# Altium integrated library K210.IntLib: 41 symbols
Pins are listed as number, name and electrical type; pins without a type are passive.

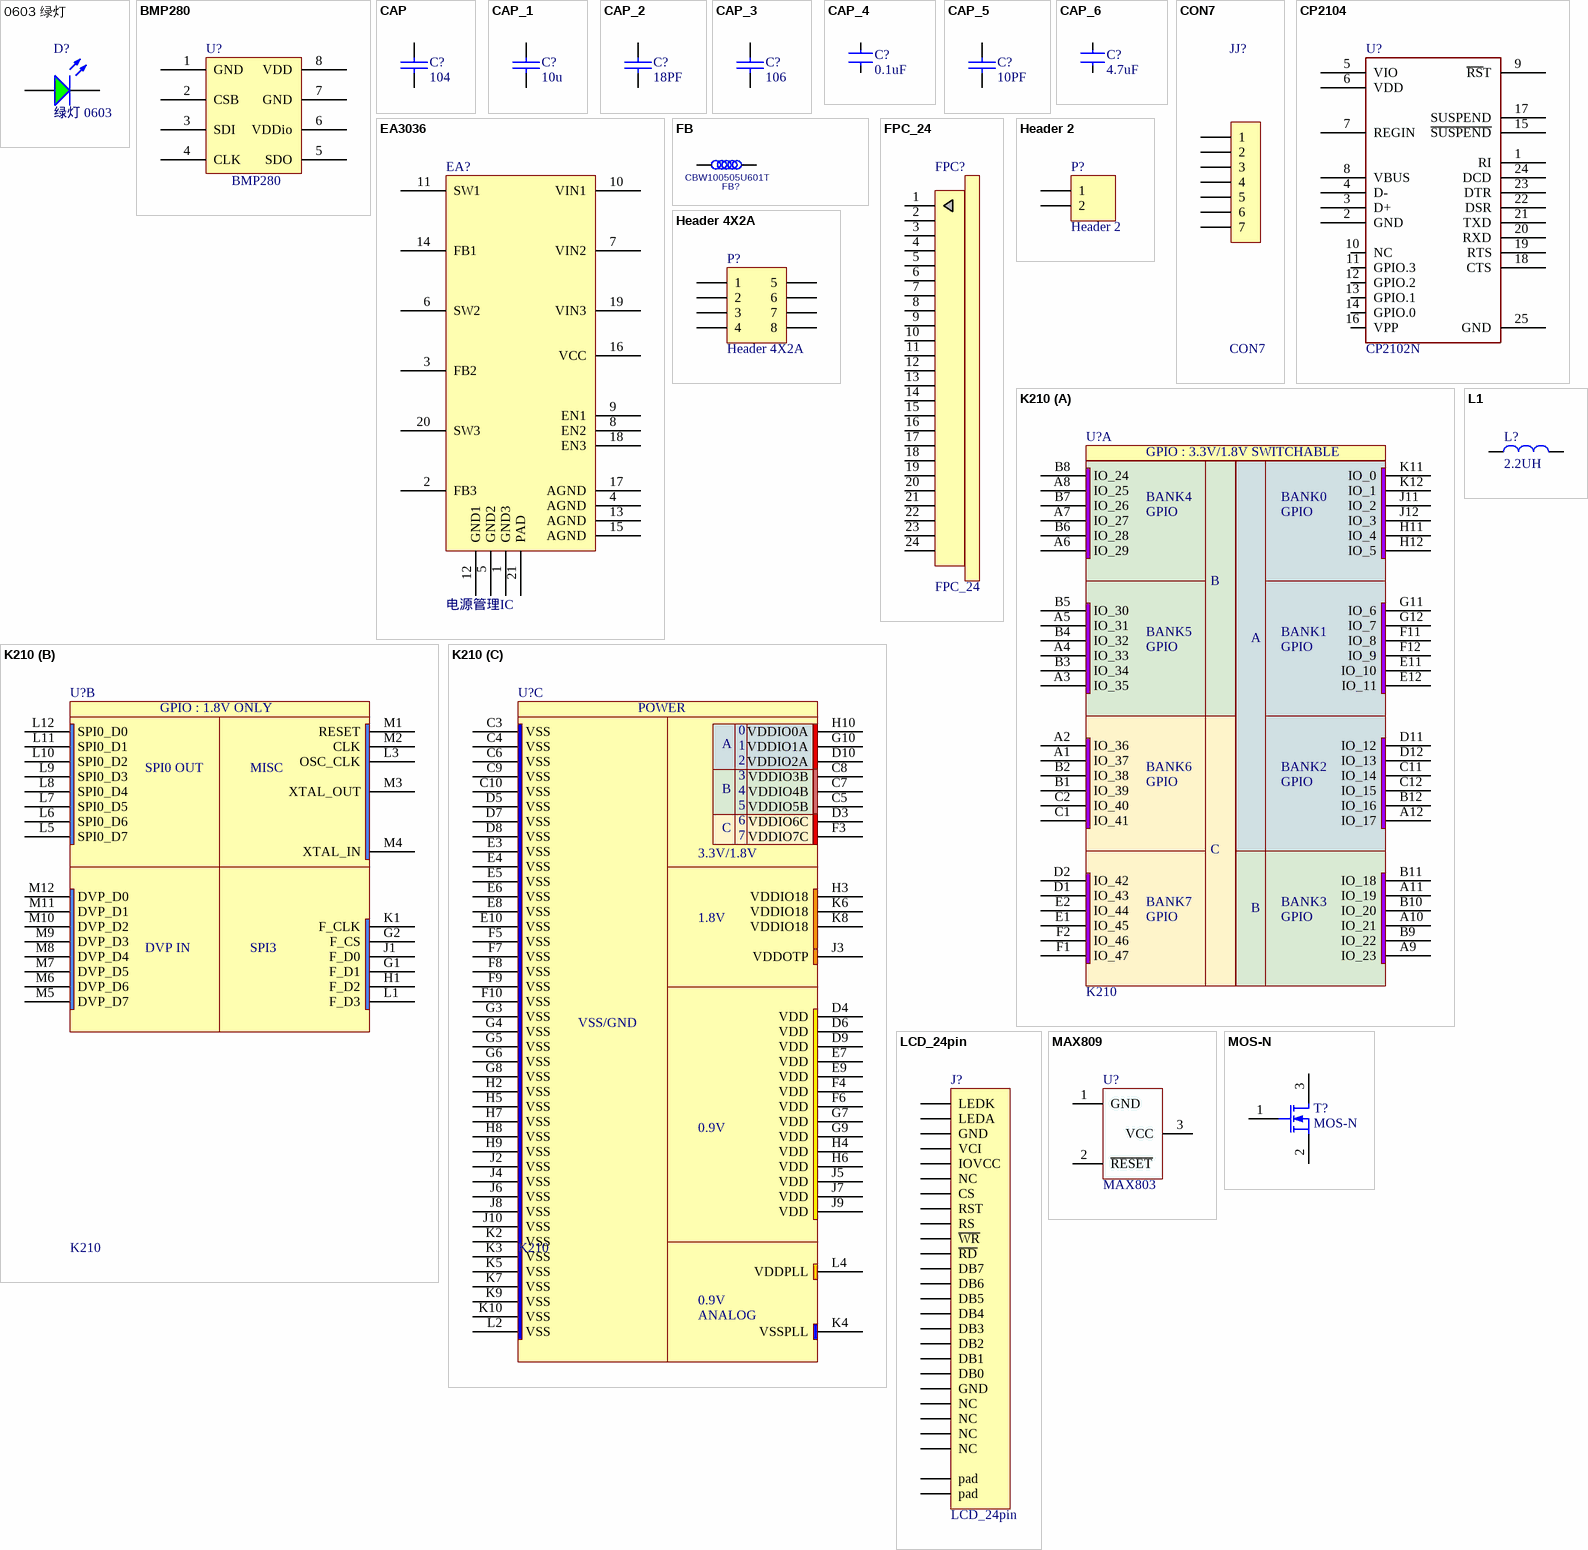
[diagram p0: symbols 0603 绿灯 to MOS-N]

## 0603 绿灯
designator D?, comment 绿灯 0603
发光二极管; ComponentLink1Description: 供应商链接; ComponentLink1URL: http://www.szlcsc.com/product/details_73152.html; Package: 0603; Supplier: LC; SuppliersPartNumber: C72043
footprint 0603_LED_S1
footprint 0603_LED
pins: A, K

## BMP280
designator U?
footprint BMP280 (气压传感器)
pins: 1 GND, 2 CSB, 3 SDI, 4 CLK (power), 5 SDO, 6 VDDio, 7 GND, 8 VDD (power)

## CAP
designator C?, comment 104
footprint 0603_C
pins: 1, 2

## CAP_1
designator C?, comment 10u
footprint 0603_C
pins: 1, 2

## CAP_2
designator C?, comment 18PF
footprint 0603_C
pins: 1, 2

## CAP_3
designator C?, comment 106
footprint 0603_C
pins: 1, 2

## CAP_4
designator C?, comment 0.1uF
普通小电容
footprint 0603_C
pins: 1, 2

## CAP_5
designator C?, comment 10PF
footprint 0603_C
pins: 1, 2

## CAP_6
designator C?, comment 4.7uF
普通小电容
footprint 0603_C
pins: 1, 2

## CON7
designator JJ?
footprint HDR2.54-LI-7P (排针，8脚)
footprint SIP7
pins: 1, 2, 3, 4, 5, 6, 7

## CP2104
designator U?, comment CP2102N
footprint QFN24 4x4_N (24脚，长x宽x高：4x4x1mm，脚距：0.5mm)
pins: 1 RI, 2 GND (power), 3 D+, 4 D-, 5 VIO, 6 VDD, 7 REGIN, 8 VBUS (power), 9 ~{RS}T, 10 NC, 11 GPIO.3, 12 GPIO.2, 13 GPIO.1, 14 GPIO.0, 15 ~{SUSPEND}, 16 VPP, 17 SUSPEND, 18 CTS, 19 RTS, 20 RXD, 21 TXD, 22 DSR, 23 DTR, 24 DCD, 25 GND (power)

## EA3036
designator EA?, comment 电源管理IC
footprint QFN20 3x3_M (20脚，长x宽x高：3x3x0.8mm，脚距：0.4mm)
pins: 1 GND3, 2 FB3, 3 FB2, 4 AGND, 5 GND2, 6 SW2, 7 VIN2, 8 EN2, 9 EN1, 10 VIN1, 11 SW1, 12 GND1, 13 AGND, 14 FB1, 15 AGND, 16 VCC, 17 AGND, 18 EN3, 19 VIN3, 20 SW3, 21 PAD

## FB
designator FB?, comment CBW100505U601T
DescriptiveText: 0402 磁珠 600R@100MHz,150mA; TYPE: 贴片磁珠
footprint 0603_R
pins: 1, 2

## FPC_24
designator FPC?
footprint FPC_24
pins: 1, 2, 3, 4, 5, 6, 7, 8, 9, 10, 11, 12, 13, 14, 15, 16, 17, 18, 19, 20, 21, 22, 23, 24

## Header 2
designator P?
Header, 2-Pin; LatestRevisionDate: 17-Jul-2002; LatestRevisionNote: Re-released for DXP Platform.; Publisher: Altium Limited
footprint HDR1X2 (Connector; Header; 2 Position)
signal-integrity model Connector
pins: 1, 2

## Header 4X2A
designator P?
Header, 4-Pin, Dual row; LatestRevisionDate: 17-Jul-2002; LatestRevisionNote: Re-released for DXP Platform.; Publisher: Altium Limited
footprint HDR2X4_CEN (Connector; Header; 4x2 Position)
signal-integrity model Connector
pins: 1, 2, 3, 4, 5, 6, 7, 8

## K210
designator U?
Canaan Kendryte K210 AI SoC; VENDOR: CANAAN INC.
footprint BGA144C65P12X12_800X800X95 (BGA, 144-Leads, Body 8.00x8.00mmx0.95mm, Pitch 0.65mm)
part A pins: A1 IO_37 "Voltage switchable GPIO for FPIOA (3.3V or 1.8V). After reset is :  GPIOHS21.", A2 IO_36 "Voltage switchable GPIO for FPIOA (3.3V or 1.8V). After reset is :  GPIOHS20.", A3 IO_35 "Voltage switchable GPIO for FPIOA (3.3V or 1.8V). After reset is :  GPIOHS19.", A4 IO_33 "Voltage switchable GPIO for FPIOA (3.3V or 1.8V). After reset is :  GPIOHS17.", A5 IO_31 "Voltage switchable GPIO for FPIOA (3.3V or 1.8V). After reset is :  GPIOHS15.", A6 IO_29 "Voltage switchable GPIO for FPIOA (3.3V or 1.8V). After reset is :  GPIOHS13.", A7 IO_27 "Voltage switchable GPIO for FPIOA (3.3V or 1.8V). After reset is :  GPIOHS11.", A8 IO_25 "Voltage switchable GPIO for FPIOA (3.3V or 1.8V). After reset is :  GPIOHS9.", A9 IO_23 "Voltage switchable GPIO for FPIOA (3.3V or 1.8V). After reset is :  GPIOHS7.", A10 IO_21 "Voltage switchable GPIO for FPIOA (3.3V or 1.8V). After reset is :  GPIOHS5.", A11 IO_19 "Voltage switchable GPIO for FPIOA (3.3V or 1.8V). After reset is :  GPIOHS3.", A12 IO_17 "Voltage switchable GPIO for FPIOA (3.3V or 1.8V). After reset is :  GPIOHS1.", B1 IO_39 "Voltage switchable GPIO for FPIOA (3.3V or 1.8V). After reset is :  GPIOHS23.", B2 IO_38 "Voltage switchable GPIO for FPIOA (3.3V or 1.8V). After reset is :  GPIOHS22.", B3 IO_34 "Voltage switchable GPIO for FPIOA (3.3V or 1.8V). After reset is :  GPIOHS18.", B4 IO_32 "Voltage switchable GPIO for FPIOA (3.3V or 1.8V). After reset is :  GPIOHS16.", B5 IO_30 "Voltage switchable GPIO for FPIOA (3.3V or 1.8V). After reset is :  GPIOHS14.", B6 IO_28 "Voltage switchable GPIO for FPIOA (3.3V or 1.8V). After reset is :  GPIOHS12.", B7 IO_26 "Voltage switchable GPIO for FPIOA (3.3V or 1.8V). After reset is :  GPIOHS10.", B8 IO_24 "Voltage switchable GPIO for FPIOA (3.3V or 1.8V). After reset is :  GPIOHS8.", B9 IO_22 "Voltage switchable GPIO for FPIOA (3.3V or 1.8V). After reset is :  GPIOHS6.", B10 IO_20 "Voltage switchable GPIO for FPIOA (3.3V or 1.8V). After reset is :  GPIOHS4.", B11 IO_18 "Voltage switchable GPIO for FPIOA (3.3V or 1.8V). After reset is :  GPIOHS2.", B12 IO_16 "Voltage switchable GPIO for FPIOA (3.3V or 1.8V). After reset is :  GPIOHS0.", C1 IO_41 "Voltage switchable GPIO for FPIOA (3.3V or 1.8V). After reset is :  GPIOHS25.", C2 IO_40 "Voltage switchable GPIO for FPIOA (3.3V or 1.8V). After reset is :  GPIOHS24.", C11 IO_14 "Voltage switchable GPIO for FPIOA (3.3V or 1.8V). After reset is :  GPIO6.", C12 IO_15 "Voltage switchable GPIO for FPIOA (3.3V or 1.8V). After reset is :  GPIO7.", D1 IO_43 "Voltage switchable GPIO for FPIOA (3.3V or 1.8V). After reset is :  GPIOHS27.", D2 IO_42 "Voltage switchable GPIO for FPIOA (3.3V or 1.8V). After reset is :  GPIOHS26.", D11 IO_12 "Voltage switchable GPIO for FPIOA (3.3V or 1.8V). After reset is :  GPIO4.", D12 IO_13 "Voltage switchable GPIO for FPIOA (3.3V or 1.8V). After reset is :  GPIO5.", E1 IO_45 "Voltage switchable GPIO for FPIOA (3.3V or 1.8V). After reset is :  GPIOHS29.", E2 IO_44 "Voltage switchable GPIO for FPIOA (3.3V or 1.8V). After reset is :  GPIOHS28.", E11 IO_10 "Voltage switchable GPIO for FPIOA (3.3V or 1.8V). After reset is :  GPIO2.", E12 IO_11 "Voltage switchable GPIO for FPIOA (3.3V or 1.8V). After reset is :  GPIO3.", F1 IO_47 "Voltage switchable GPIO for FPIOA (3.3V or 1.8V). After reset is :  GPIOHS31.", F2 IO_46 "Voltage switchable GPIO for FPIOA (3.3V or 1.8V). After reset is :  GPIOHS30.", F11 IO_8 "Voltage switchable GPIO for FPIOA (3.3V or 1.8V). After reset is :  GPIO0.", F12 IO_9 "Voltage switchable GPIO for FPIOA (3.3V or 1.8V). After reset is :  GPIO1.", G11 IO_6 "Voltage switchable GPIO for FPIOA (3.3V or 1.8V). After reset is :  (FLOAT*).", G12 IO_7 "Voltage switchable GPIO for FPIOA (3.3V or 1.8V). After reset is :  (FLOAT*).", H11 IO_4 "Voltage switchable GPIO for FPIOA (3.3V or 1.8V). After reset is :  UARTHS_RX.", H12 IO_5 "Voltage switchable GPIO for FPIOA (3.3V or 1.8V). After reset is :  UARTHS_TX.", J11 IO_2 "Voltage switchable GPIO for FPIOA (3.3V or 1.8V). After reset is :  JTAG_TMS.", J12 IO_3 "Voltage switchable GPIO for FPIOA (3.3V or 1.8V). After reset is :  JTAG_TDO.", K11 IO_0 "Voltage switchable GPIO for FPIOA (3.3V or 1.8V). After reset is :  JTAG_TCLK.", K12 IO_1 "Voltage switchable GPIO for FPIOA (3.3V or 1.8V). After reset is :  JTAG_TDI."
part B pins: G1 F_D1 "Fixed 1.8V GPIO for SPI. After reset is :  F_D1.", G2 F_CS "Fixed 1.8V GPIO for SPI. After reset is :  F_CS.", H1 F_D2 "Fixed 1.8V GPIO for SPI. After reset is :  F_D2.", J1 F_D0 "Fixed 1.8V GPIO for SPI. After reset is :  F_D0.", K1 F_CLK "Fixed 1.8V GPIO for SPI. After reset is :  F_CLK.", L1 F_D3 "Fixed 1.8V GPIO for SPI. After reset is :  F_D3.", L3 OSC_CLK "Clock output for oscillator, based on external crystal. After reset is :  OSC_CLK.", L5 SPI0_D7 "Output only GPIO for SPI0 D7. After reset is :  (FLOAT*).", L6 SPI0_D6 "Output only GPIO for SPI0 D6. After reset is :  (FLOAT*).", L7 SPI0_D5 "Output only GPIO for SPI0 D5. After reset is :  (FLOAT*).", L8 SPI0_D4 "Output only GPIO for SPI0 D4. After reset is :  (FLOAT*).", L9 SPI0_D3 "Output only GPIO for SPI0 D3. After reset is :  (FLOAT*).", L10 SPI0_D2 "Output only GPIO for SPI0 D2. After reset is :  (FLOAT*).", L11 SPI0_D1 "Output only GPIO for SPI0 D1. After reset is :  (FLOAT*).", L12 SPI0_D0 "Output only GPIO for SPI0 D0. After reset is :  (FLOAT*).", M1 RESET "System Reset (LOW reset). After reset is :  RESET.", M2 CLK "System clock input. After reset is :  CLK.", M3 XTAL_OUT "External crystal output, non fail-safe, can't connect active signal during power failure. After reset is :  XTAL_OUT.", M4 XTAL_IN "External crystal input, non fail-safe, can't connect active signal during power failure. After reset is :  XTAL_IN.", M5 DVP_D7 "Input only GPIO for DVP D7. After reset is :  (FLOAT*).", M6 DVP_D6 "Input only GPIO for DVP D6. After reset is :  (FLOAT*).", M7 DVP_D5 "Input only GPIO for DVP D5. After reset is :  (FLOAT*).", M8 DVP_D4 "Input only GPIO for DVP D4. After reset is :  (FLOAT*).", M9 DVP_D3 "Input only GPIO for DVP D3. After reset is :  (FLOAT*).", M10 DVP_D2 "Input only GPIO for DVP D2. After reset is :  (FLOAT*).", M11 DVP_D1 "Input only GPIO for DVP D1. After reset is :  (FLOAT*).", M12 DVP_D0 "Input only GPIO for DVP D0. After reset is :  (FLOAT*)."
part C pins: C3 VSS (power) "Ground. After reset is :  VSS.", C4 VSS (power) "Ground. After reset is :  VSS.", C5 VDDIO5B (power) "3.3V Power supply for voltage switchable GPIO. After reset is :  VDDIO33.", C6 VSS (power) "Ground. After reset is :  VSS.", C7 VDDIO4B (power) "3.3V Power supply for voltage switchable GPIO. After reset is :  VDDIO33.", C8 VDDIO3B (power) "3.3V Power supply for voltage switchable GPIO. After reset is :  VDDIO33.", C9 VSS (power) "Ground. After reset is :  VSS.", C10 VSS (power) "Ground. After reset is :  VSS.", D3 VDDIO6C (power) "3.3V Power supply for voltage switchable GPIO. After reset is :  VDDIO33.", D4 VDD (power) "0.9V Power supply for digital core. After reset is :  VDD.", D5 VSS (power) "Ground. After reset is :  VSS.", D6 VDD (power) "0.9V Power supply for digital core. After reset is :  VDD.", D7 VSS (power) "Ground. After reset is :  VSS.", D8 VSS (power) "Ground. After reset is :  VSS.", D9 VDD (power) "0.9V Power supply for digital core. After reset is :  VDD.", D10 VDDIO2A (power) "3.3V Power supply for voltage switchable GPIO. After reset is :  VDDIO33.", E3 VSS (power) "Ground. After reset is :  VSS.", E4 VSS (power) "Ground. After reset is :  VSS.", E5 VSS (power) "Ground. After reset is :  VSS.", E6 VSS (power) "Ground. After reset is :  VSS.", E7 VDD (power) "0.9V Power supply for digital core. After reset is :  VDD.", E8 VSS (power) "Ground. After reset is :  VSS.", E9 VDD (power) "0.9V Power supply for digital core. After reset is :  VDD.", E10 VSS (power) "Ground. After reset is :  VSS.", F3 VDDIO7C (power) "3.3V Power supply for voltage switchable GPIO. After reset is :  VDDIO33.", F4 VDD (power) "0.9V Power supply for digital core. After reset is :  VDD.", F5 VSS (power) "Ground. After reset is :  VSS.", F6 VDD (power) "0.9V Power supply for digital core. After reset is :  VDD.", F7 VSS (power) "Ground. After reset is :  VSS.", F8 VSS (power) "Ground. After reset is :  VSS.", F9 VSS (power) "Ground. After reset is :  VSS.", F10 VSS (power) "Ground. After reset is :  VSS.", G3 VSS (power) "Ground. After reset is :  VSS.", G4 VSS (power) "Ground. After reset is :  VSS.", G5 VSS (power) "Ground. After reset is :  VSS.", G6 VSS (power) "Ground. After reset is :  VSS.", G7 VDD (power) "0.9V Power supply for digital core. After reset is :  VDD.", G8 VSS (power) "Ground. After reset is :  VSS.", G9 VDD (power) "0.9V Power supply for digital core. After reset is :  VDD.", G10 VDDIO1A (power) "3.3V Power supply for voltage switchable GPIO. After reset is :  VDDIO33.", H2 VSS (power) "Ground. After reset is :  VSS.", H3 VDDIO18 (power) "1.8V Power supply for GPIO. After reset is :  VDDIO18.", H4 VDD (power) "0.9V Power supply for digital core. After reset is :  VDD.", H5 VSS (power) "Ground. After reset is :  VSS.", H6 VDD (power) "0.9V Power supply for digital core. After reset is :  VDD.", H7 VSS (power) "Ground. After reset is :  VSS.", H8 VSS (power) "Ground. After reset is :  VSS.", H9 VSS (power) "Ground. After reset is :  VSS.", H10 VDDIO0A (power) "3.3V Power supply for voltage switchable GPIO. After reset is :  VDDIO33.", J2 VSS (power) "Ground. After reset is :  VSS.", J3 VDDOTP (power) "1.8V Power supply for OTP. After reset is :  VDDOTP.", J4 VSS (power) "Ground. After reset is :  VSS.", J5 VDD (power) "0.9V Power supply for digital core. After reset is :  VDD.", J6 VSS (power) "Ground. After reset is :  VSS.", J7 VDD (power) "0.9V Power supply for digital core. After reset is :  VDD.", J8 VSS (power) "Ground. After reset is :  VSS.", J9 VDD (power) "0.9V Power supply for digital core. After reset is :  VDD.", J10 VSS (power) "Ground. After reset is :  VSS.", K2 VSS (power) "Ground. After reset is :  VSS.", K3 VSS (power) "Ground. After reset is :  VSS.", K4 VSSPLL (power) "Analog Ground. for PLL. After reset is :  VSSPLL.", K5 VSS (power) "Ground. After reset is :  VSS.", K6 VDDIO18 (power) "1.8V Power supply for GPIO. After reset is :  VDDIO18.", K7 VSS (power) "Ground. After reset is :  VSS.", K8 VDDIO18 (power) "1.8V Power supply for GPIO. After reset is :  VDDIO18.", K9 VSS (power) "Ground. After reset is :  VSS.", K10 VSS (power) "Ground. After reset is :  VSS.", L2 VSS (power) "Ground. After reset is :  VSS.", L4 VDDPLL (power) "0.9V Analog Power supply for PLL. After reset is :  VDDPLL."
part A text: GPIO : 3.3V/1.8V SWITCHABLE; BANK4; BANK0; GPIO; B; BANK5; BANK1; A; BANK6; BANK2; C; BANK7; BANK3
part B text: GPIO : 1.8V ONLY; SPI0 OUT; MISC; DVP IN; SPI3
part C text: POWER; 0; A; 1; 2; 3; B; 4; 5; 6; C; 7; 3.3V/1.8V; 1.8V; VSS/GND; 0.9V; ANALOG

## L1
designator L?, comment 2.2UH
电感
footprint NR3015
pins: 1, 2

## LCD_24pin
designator J?
footprint OV7740
pins: 1 LEDK, 2 LEDA, 3 GND, 4 VCI, 5 IOVCC, 6 NC, 7 CS, 8 RST, 9 RS, 10 ~{WR}, 11 ~{RD}, 12 DB7, 13 DB6, 14 DB5, 15 DB4, 16 DB3, 17 DB2, 18 DB1, 19 DB0, 20 GND, 21 NC, 22 NC, 23 NC, 24 NC, 25 pad, 26 pad

## MAX809
designator U?, comment MAX803
footprint SOT23-3N (3x1.3x1mm(长宽高))
pins: 1 GND, 2 ~{RESET}, 3 VCC

## MOS-N
designator T?
footprint SOT23-3N (3x1.3x1mm(长宽高))
pins: 1, 2, 3

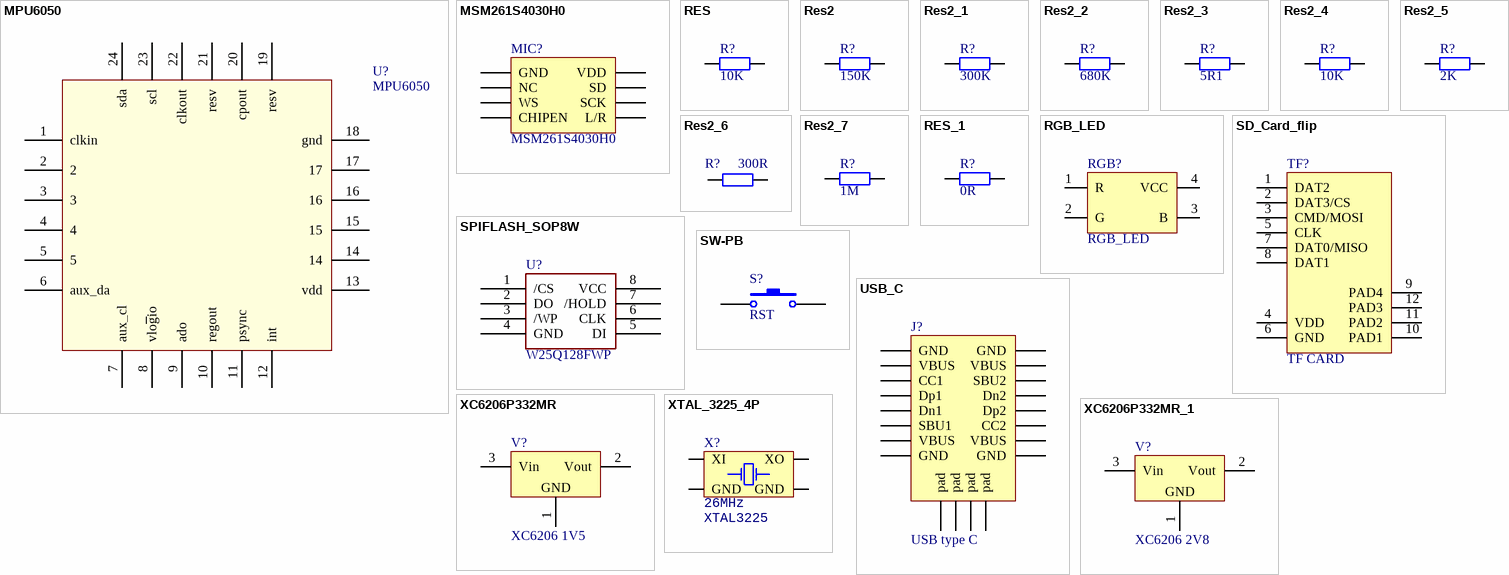
[diagram p1: symbols MPU6050 to XTAL_3225_4P]

## MPU6050
designator U?
footprint QFN24 4x4_M (24脚，长x宽x高：4x4x1mm，脚距：0.5mm)
pins: 1 clkin, 2, 3, 4, 5, 6 aux_da, 7 aux_cl, 8 vlo~{g}io, 9 ado, 10 regout, 11 psync, 12 int, 13 vdd, 14, 15, 16, 17, 18 gnd, 19 resv, 20 cpout, 21 resv, 22 clkout, 23 scl, 24 sda

## MSM261S4030H0
designator MIC?
footprint MSM261S4030H0
pins: 1 GND, 2 NC, 3 WS, 4 CHIPEN, 5 L/R, 6 SCK, 7 SD, 8 VDD

## RES
designator R?, comment 10K
普通电阻
footprint 0603_R
pins: 1, 2

## Res2
designator R?  value 150K  (hidden comment: Res2)
Resistor; Published: 8-Jun-2000; LatestRevisionDate: 17-Jul-2002; LatestRevisionNote: Re-released for DXP Platform.; PackageReference: AXIAL-0.4; Publisher: Altium Limited
simulation model RESISTOR (Resistor)
signal-integrity model Res
footprint 0603_R
pins: 1, 2

## Res2_1
designator R?, comment value 300K  (hidden comment: Res2)
Resistor; Published: 8-Jun-2000; LatestRevisionDate: 17-Jul-2002; LatestRevisionNote: Re-released for DXP Platform.; PackageReference: AXIAL-0.4; Publisher: Altium Limited
simulation model RESISTOR (Resistor)
signal-integrity model Res
footprint 0603_R
pins: 1, 2

## Res2_2
designator R?, comment value 680K  (hidden comment: Res2)
Resistor; Published: 8-Jun-2000; LatestRevisionDate: 17-Jul-2002; LatestRevisionNote: Re-released for DXP Platform.; PackageReference: AXIAL-0.4; Publisher: Altium Limited
simulation model RESISTOR (Resistor)
signal-integrity model Res
footprint 0603_R
pins: 1, 2

## Res2_3
designator R?, comment value 5R1  (hidden comment: Res2)
Resistor; Published: 8-Jun-2000; LatestRevisionDate: 17-Jul-2002; LatestRevisionNote: Re-released for DXP Platform.; PackageReference: AXIAL-0.4; Publisher: Altium Limited
simulation model RESISTOR (Resistor)
signal-integrity model Res
footprint 0603_R
pins: 1, 2

## Res2_4
designator R?, comment value 10K  (hidden comment: Res2)
Resistor; Published: 8-Jun-2000; LatestRevisionDate: 17-Jul-2002; LatestRevisionNote: Re-released for DXP Platform.; PackageReference: AXIAL-0.4; Publisher: Altium Limited
simulation model RESISTOR (Resistor)
signal-integrity model Res
footprint 0603_R
pins: 1, 2

## Res2_5
designator R?, comment value 2K  (hidden comment: Res2)
Resistor; Published: 8-Jun-2000; LatestRevisionDate: 17-Jul-2002; LatestRevisionNote: Re-released for DXP Platform.; PackageReference: AXIAL-0.4; Publisher: Altium Limited
simulation model RESISTOR (Resistor)
signal-integrity model Res
footprint 0603_R
pins: 1, 2

## Res2_6
designator R?, comment value 300R  (hidden comment: 1K)
Resistor; Published: 8-Jun-2000; LatestRevisionDate: 17-Jul-2002; LatestRevisionNote: Re-released for DXP Platform.; PackageReference: AXIAL-0.4; Publisher: Altium Limited
simulation model RESISTOR (Resistor)
signal-integrity model Res
footprint 0603_R
pins: 1, 2

## Res2_7
designator R?, comment value 1M  (hidden comment: Res2)
Resistor; Published: 8-Jun-2000; LatestRevisionDate: 17-Jul-2002; LatestRevisionNote: Re-released for DXP Platform.; PackageReference: AXIAL-0.4; Publisher: Altium Limited
simulation model RESISTOR (Resistor)
signal-integrity model Res
footprint 0603_R
pins: 1, 2

## RES_1
designator R?, comment 0R
普通电阻
footprint 0603_R
pins: 1, 2

## RGB_LED
designator RGB?
三色高亮LED
footprint LED_3528_RGB
pins: 1 R, 2 G, 3 B, 4 VCC

## SD_Card_flip
designator TF?, comment TF CARD
footprint TF卡座
pins: 1 DAT2, 2 DAT3/CS, 3 CMD/MOSI, 4 VDD, 5 CLK, 6 GND, 7 DAT0/MISO, 8 DAT1, 9 PAD4, 10 PAD1, 11 PAD2, 12 PAD3

## SPIFLASH_SOP8W
designator U?, comment W25Q128FWP
footprint WSON8
pins: 1 /CS, 2 DO, 3 /WP, 4 GND, 5 DI, 6 CLK, 7 /HOLD, 8 VCC

## SW-PB
designator S?, comment RST
Switch; Published: 24-Mar-1999; LatestRevisionDate: 17-Jul-2002; LatestRevisionNote: Re-released for DXP Platform.; PackageReference: SPST-2; Publisher: Altium Limited; PackageDescription: Switch; 2 Leads
footprint KEY_1
pins: 1, 2

## USB_C
designator J?, comment USB type C
footprint USB Type-C-16Pin_A
pins: 0 pad, 0 pad, 0 pad, 0 pad, A1 GND, A4 VBUS, A5 CC1, A6 Dp1, A7 Dn1, A8 SBU1, A9 VBUS, A12 GND, B1 GND, B4 VBUS, B5 CC2, B6 Dp2, B7 Dn2, B8 SBU2, B9 VBUS, B12 GND

## XC6206P332MR
designator V?, comment XC6206 1V5
低压差线性稳压芯片; 版权归属: 源创客; BOM名称: 低压差线性稳压芯片; 学习资源: www.ooocke.com
footprint SOT23-3N (3x1.3x1mm(长宽高))
footprint SOT23-3M (3x1.3x1mm(长宽高))
footprint SOT23-3L (3x1.3x1mm(长宽高))
pins: 1 GND, 2 Vout, 3 Vin

## XC6206P332MR_1
designator V?, comment XC6206 2V8
低压差线性稳压芯片; 版权归属: 源创客; BOM名称: 低压差线性稳压芯片; 学习资源: www.ooocke.com
footprint SOT23-3N (3x1.3x1mm(长宽高))
footprint SOT23-3M (3x1.3x1mm(长宽高))
footprint SOT23-3L (3x1.3x1mm(长宽高))
pins: 1 GND, 2 Vout, 3 Vin

## XTAL_3225_4P
designator X?, comment Type: XTAL3225  (hidden comment: 26MHz)
Crystal Oscillator; Value: 26MHz
footprint XT_3225_4
pins: 1 XI, 2 GND, 3 XO, 4 GND